# Altium schematic symbol library IE092503-1.SchLib: 1 symbol
Pins are listed as number, name and electrical type; pins without a type are passive.

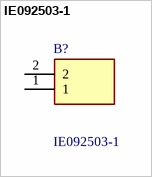
[diagram p0: symbol IE092503-1]

## IE092503-1
designator B?
Audio Indicators & Alerts Electro-Mechanical Indicator; Manufacturer_Name: DB Unlimited; Geometry.Height: 5mm; Mouser Part Number: 497-IE092503-1; Mouser Price/Stock: https://www.mouser.co.uk/ProductDetail/DB-Unlimited/IE092503-1?qs=t9M3m0YJX4OMgcFlTn3Auw%3D%3D; Manufacturer_Part_Number: IE092503-1; Datasheet Link: https://www.mouser.cn/datasheet/2/683/IE092503-1-358381.pdf
footprint IE0925031
pins: 1, 2